# EAGLE library part TPS62110 (library texas)
Synchronous Step-Down Converter
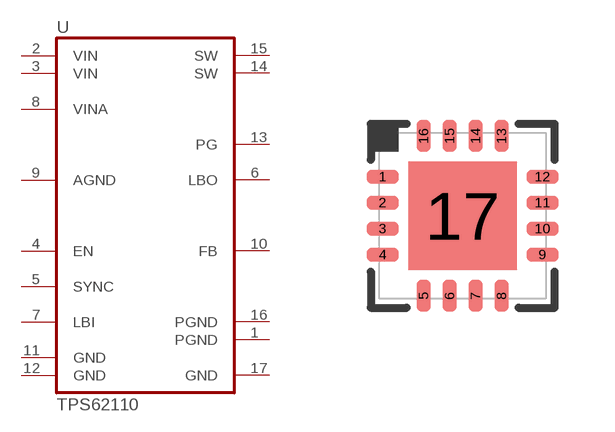
[diagram p117: symbol with the pads of VQFN16; footprint VQFN16]

Designator prefix U

## TPS62110  [VQFN16]
1  PGND  pwr
2  VIN  pwr
3  VIN  pwr
4  EN  in
5  SYNC  in
6  LBO  oc
7  LBI  in
8  VINA  pwr
9  AGND  pwr
10  FB  in
11  GND  pwr
12  GND  pwr
13  PG  oc
14  SW  pas
15  SW  pas
16  PGND
17  GND  pwr

## Footprint VQFN16 (pad centres in mm)
VQFN 16 RGV (S-PQFP-N16), body 4 x 4 mm, pitch 0.65 mm
smd 0.8 x 0.35: 1 -2,0.975; 2 -2,0.325; 3 -2,-0.325; 4 -2,-0.975; 9 2,-0.975; 10 2,-0.325; 11 2,0.325; 12 2,0.975
smd 0.35 x 0.8: 5 -0.975,-2; 6 -0.325,-2; 7 0.325,-2; 8 0.975,-2; 13 0.975,2; 14 0.325,2; 15 -0.325,2; 16 -0.975,2
smd 2.7 x 2.7: 17 0,0